# Altium schematic symbol library Amphenol MicroUSB.SchLib: 1 symbol
Pins are listed as number, name and electrical type; pins without a type are passive.

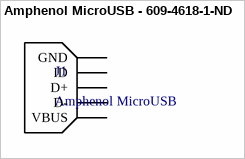
[diagram p0: symbol Amphenol MicroUSB - 609-4618-1-ND]

## Amphenol MicroUSB - 609-4618-1-ND
designator J1, comment Amphenol MicroUSB
footprint Amphenol MicroUSB (10118194-0001LF)
pins: 1 VBUS, 2 D-, 3 D+, 4 ID, 5 GND